# Altium integrated library STM32F722RET6.IntLib: 1 symbol
Pins are listed as number, name and electrical type; pins without a type are passive.

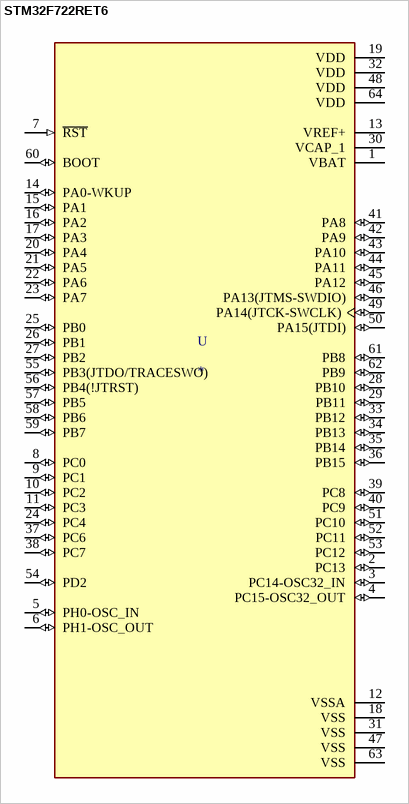
[diagram p0: symbol STM32F722RET6]

## STM32F722RET6
designator U
ARMÂ® CortexÂ®-M7 STM32F7 Microcontroller IC 32-Bit 216MHz 512KB _512K x 8_ FLASH 64-LQFP _10x10_; MF: STMicroelectronics; MP: STM32F722RET6; SnapEDA_Link: https://www.snapeda.com/parts/STM32F722RET6/STMicroelectronics/view-part/696468/?ref=snap; Availability: Unavailable; Price: None; Package: LQFP-64 STMicroelectronics; Value: *
footprint QFP50P1200X1200X160-64N
pins: 1 VBAT (power), 2 PC13 (io), 3 PC14-OSC32_IN (io), 4 PC15-OSC32_OUT (io), 5 PH0-OSC_IN (io), 6 PH1-OSC_OUT (io), 7 ~{RST} (in), 8 PC0 (io), 9 PC1 (io), 10 PC2 (io), 11 PC3 (io), 12 VSSA (power), 13 VREF+ (power), 14 PA0-WKUP (io), 15 PA1 (io), 16 PA2 (io), 17 PA3 (io), 18 VSS (power), 19 VDD (power), 20 PA4 (io), 21 PA5 (io), 22 PA6 (io), 23 PA7 (io), 24 PC4 (io), 25 PB0 (io), 26 PB1 (io), 27 PB2 (io), 28 PB10 (io), 29 PB11 (io), 30 VCAP_1 (power), 31 VSS (power), 32 VDD (power), 33 PB12 (io), 34 PB13 (io), 35 PB14 (io), 36 PB15 (io), 37 PC6 (io), 38 PC7 (io), 39 PC8 (io), 40 PC9 (io), 41 PA8 (io), 42 PA9 (io), 43 PA10 (io), 44 PA11 (io), 45 PA12 (io), 46 PA13(JTMS-SWDIO) (io), 47 VSS (power), 48 VDD (power), 49 PA14(JTCK-SWCLK) (io), 50 PA15(JTDI) (io), 51 PC10 (io), 52 PC11 (io), 53 PC12 (io), 54 PD2 (io), 55 PB3(JTDO/TRACESWO) (io), 56 PB4(!JTRST) (io), 57 PB5 (io), 58 PB6 (io), 59 PB7 (io), 60 BOOT (io), 61 PB8 (io), 62 PB9 (io), 63 VSS (power), 64 VDD (power)